# Altium schematic symbol library AZ1084CD-3P3TRG1.SchLib: 2 symbols
Pins are listed as number, name and electrical type; pins without a type are passive.

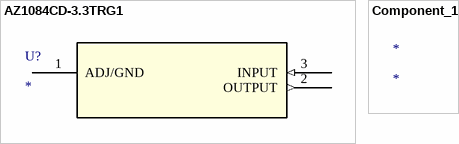
[diagram p0: symbols AZ1084CD-3.3TRG1 to Component_1]

## AZ1084CD-3.3TRG1
designator U?
No Description Available; Mfr_Name: Diodes Inc; RefDes: RefDes; Type: Type
footprint TO-252-3_6P6X6P1_DIO
pins: 1 ADJ/GND (power), 2 OUTPUT (out), 3 INPUT (in)

## Component_1
designator *